# Altium footprint library MOLEX-43650.PcbLib: 12 footprints
Each footprint in its own frame and in the unit in brackets; x right, y up, seen from the top. Pads: shape width x height; smd on the part's side, far side on the other; paste and mask are expansions set on the pad; w line width, h text height; cw(c..) or ccw(c..) is an arc to the next point about the centre after c.
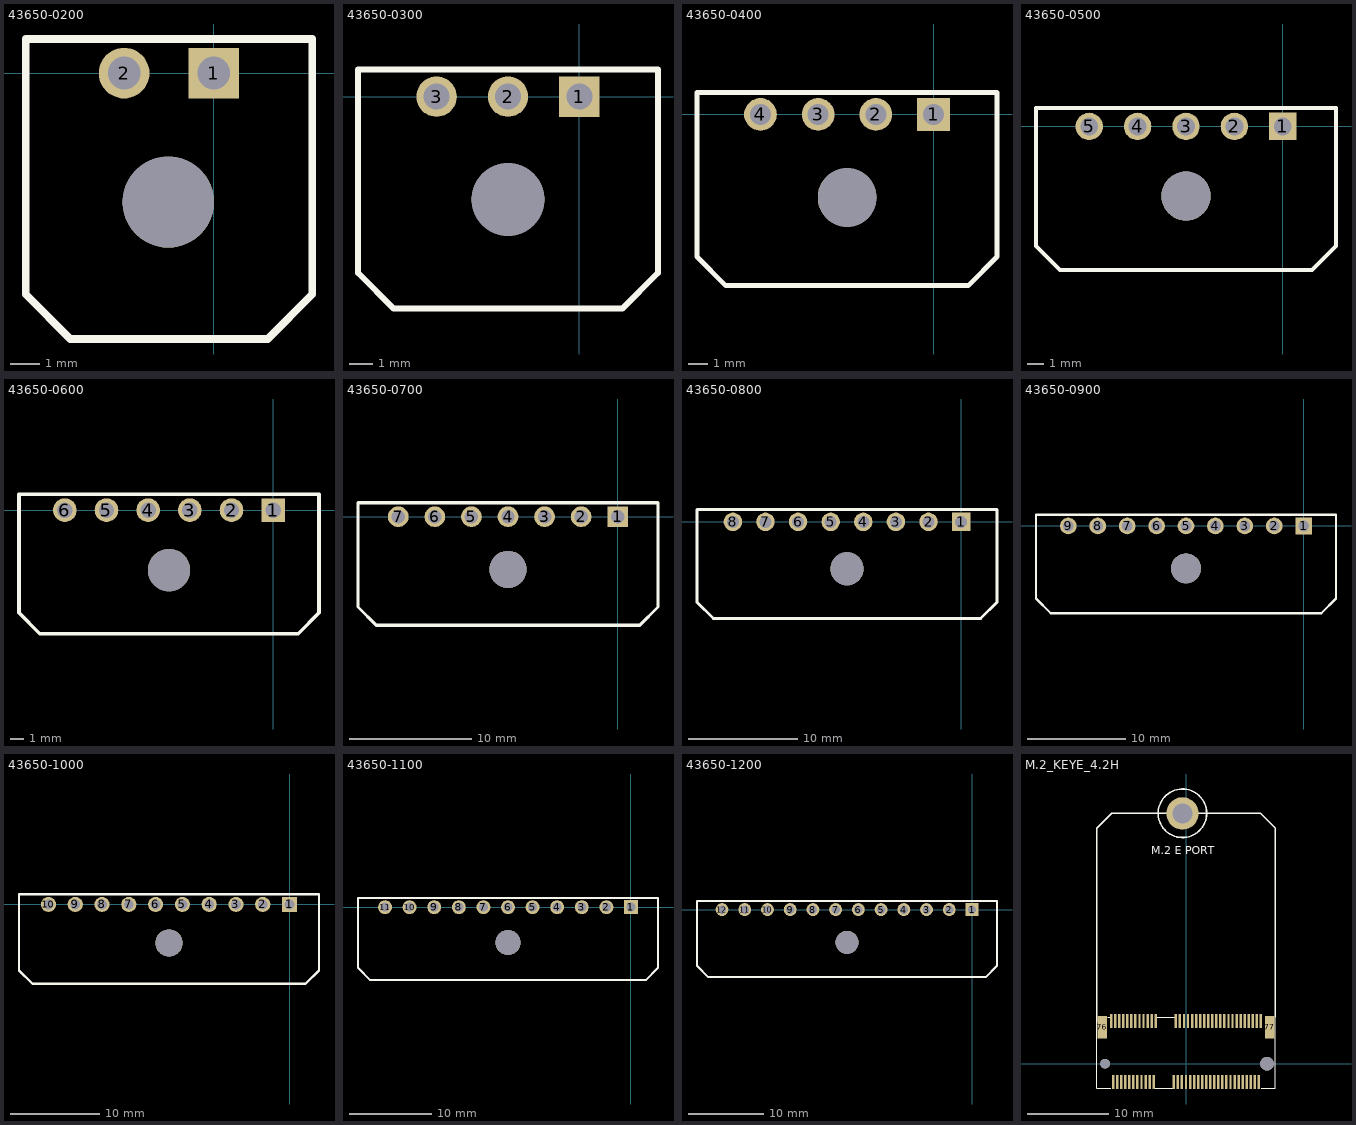
[diagram p0: the footprints below, top view; thin cyan lines are the x and y axes]

## 43650-0200 [mm]
pads (3):
  rect 1.7x1.7 hole 1.1: 1(0,0)
  round 1.7 hole 1.1: 2(-3,0)
  round 3.05 hole 3.05: ""(-1.524,-4.318)
Top Overlay:
  lines w0.254: -6.3,-7.4 -4.8,-8.9 1.8,-8.9 3.3,-7.4 3.3,1.143 -6.3,1.143 -6.3,-7.4

## 43650-0300 [mm]
pads (4):
  rect 1.7x1.7 hole 1.1: 1(0,0)
  round 1.7 hole 1.1: 2(-3,0) 3(-6,0)
  round 3.05 hole 3.05: ""(-3,-4.318)
Top Overlay:
  lines w0.254: -9.3,-7.4 -7.8,-8.9 1.8,-8.9 3.3,-7.4 3.3,1.143 -9.3,1.143 -9.3,-7.4

## 43650-0400 [mm]
pads (5):
  rect 1.7x1.7 hole 1.1: 1(0,0)
  round 1.7 hole 1.1: 2(-3,0) 3(-6,0) 4(-9,0)
  round 3.05 hole 3.05: ""(-4.496,-4.318)
Top Overlay:
  lines w0.254: -12.3,-7.4 -10.8,-8.9 1.8,-8.9 3.3,-7.4 3.3,1.143 -12.3,1.143 -12.3,-7.4

## 43650-0500 [mm]
pads (6):
  rect 1.7x1.7 hole 1.1: 1(0,0)
  round 1.7 hole 1.1: 2(-3,0) 3(-6,0) 4(-9,0) 5(-12,0)
  round 3.05 hole 3.05: ""(-6,-4.318)
Top Overlay:
  lines w0.254: -15.3,-7.4 -13.8,-8.9 1.8,-8.9 3.3,-7.4 3.3,1.143 -15.3,1.143 -15.3,-7.4

## 43650-0600 [mm]
pads (7):
  rect 1.7x1.7 hole 1.1: 1(0,0)
  round 1.7 hole 1.1: 2(-3,0) 3(-6,0) 4(-9,0) 5(-12,0) 6(-15,0)
  round 3.05 hole 3.05: ""(-7.496,-4.318)
Top Overlay:
  lines w0.254: -18.3,-7.4 -18.3,1.143 3.3,1.143 3.3,-7.4 1.8,-8.9 -16.8,-8.9 -18.3,-7.4

## 43650-0700 [mm]
pads (8):
  rect 1.7x1.7 hole 1.1: 1(0,0)
  round 1.7 hole 1.1: 2(-3,0) 3(-6,0) 4(-9,0) 5(-12,0) 6(-15,0) 7(-18,0)
  round 3.05 hole 3.05: ""(-9,-4.318)
Top Overlay:
  lines w0.254: -21.3,-7.4 -19.8,-8.9 1.8,-8.9 3.3,-7.4 3.3,1.143 -21.3,1.143 -21.3,-7.4

## 43650-0800 [mm]
pads (9):
  rect 1.7x1.7 hole 1.1: 1(0,0)
  round 1.7 hole 1.1: 2(-3,0) 3(-6,0) 4(-9,0) 5(-12,0) 6(-15,0) 7(-18,0) 8(-21,0)
  round 3.05 hole 3.05: ""(-10.496,-4.318)
Top Overlay:
  lines w0.254: -24.3,-7.4 -24.3,1.143 3.3,1.143 3.3,-7.4 1.8,-8.9 -22.8,-8.9 -24.3,-7.4

## 43650-0900 [mm]
pads (10):
  rect 1.7x1.7 hole 1.1: 1(0,0)
  round 1.7 hole 1.1: 2(-3,0) 3(-6,0) 4(-9,0) 5(-12,0) 6(-15,0) 7(-18,0) 8(-21,0) 9(-24,0)
  round 3.05 hole 3.05: ""(-12,-4.318)
Top Overlay:
  lines w0.254: -27.3,-7.4 -25.8,-8.9 1.8,-8.9 3.3,-7.4 3.3,1.143 -27.3,1.143 -27.3,-7.4

## 43650-1000 [mm]
pads (11):
  rect 1.7x1.7 hole 1.1: 1(0,0)
  round 1.7 hole 1.1: 2(-3,0) 3(-6,0) 4(-9,0) 5(-12,0) 6(-15,0) 7(-18,0) 8(-21,0) 9(-24,0) 10(-27,0)
  round 3.05 hole 3.05: ""(-13.496,-4.318)
Top Overlay:
  lines w0.254: -30.3,-7.4 -28.8,-8.9 1.8,-8.9 3.3,-7.4 3.3,1.143 -30.3,1.143 -30.3,-7.4

## 43650-1100 [mm]
pads (12):
  rect 1.7x1.7 hole 1.1: 1(0,0)
  round 1.7 hole 1.1: 2(-3,0) 3(-6,0) 4(-9,0) 5(-12,0) 6(-15,0) 7(-18,0) 8(-21,0) 9(-24,0) 10(-27,0) 11(-30,0)
  round 3.05 hole 3.05: ""(-15,-4.318)
Top Overlay:
  lines w0.254: -33.3,-7.4 -33.3,1.143 3.3,1.143 3.3,-7.4 1.8,-8.9 -31.8,-8.9 -33.3,-7.4

## 43650-1200 [mm]
pads (13):
  rect 1.7x1.7 hole 1.1: 1(0,0)
  round 1.7 hole 1.1: 2(-3,0) 3(-6,0) 4(-9,0) 5(-12,0) 6(-15,0) 7(-18,0) 8(-21,0) 9(-24,0) 10(-27,0) 11(-30,0) 12(-33,0)
  round 3.05 hole 3.05: ""(-16.496,-4.318)
Top Overlay:
  lines w0.254: -36.3,-7.4 -34.8,-8.9 1.8,-8.9 3.3,-7.4 3.3,1.143 -36.3,1.143 -36.3,-7.4

## M.2_KEYE_4.2H [mm] "M.2_KEYE_4.2H"
pads (72):
  rect 0.3x1.7 smd: 1(-9.25,5.275) 2(-9,-2.275) 3(-8.75,5.275) 4(-8.5,-2.275) 5(-8.25,5.275) 6(-8,-2.275) 7(-7.75,5.275) 8(-7.5,-2.275) 9(-7.25,5.275) 10(-7,-2.275) 11(-6.75,5.275) 12(-6.5,-2.275) 13(-6.25,5.275) 14(-6,-2.275) 15(-5.75,5.275) 16(-5.5,-2.275) 17(-5.25,5.275) 18(-5,-2.275) 19(-4.75,5.275) 20(-4.5,-2.275) 21(-4.25,5.275) 22(-4,-2.275) 23(-3.75,5.275) 32(-1.5,-2.275) 33(-1.25,5.275) 34(-1,-2.275) 35(-0.75,5.275) 36(-0.5,-2.275) 37(-0.25,5.275) 38(0,-2.275) 39(0.25,5.275) 40(0.5,-2.275) 41(0.75,5.275) 42(1,-2.275) 43(1.25,5.275) 44(1.5,-2.275) 45(1.75,5.275) 46(2,-2.275) 47(2.25,5.275) 48(2.5,-2.275) 49(2.75,5.275) 50(3,-2.275) 51(3.25,5.275) 52(3.5,-2.275) 53(3.75,5.275) 54(4,-2.275) 55(4.25,5.275) 56(4.5,-2.275) 57(4.75,5.275) 58(5,-2.275) 59(5.25,5.275) 60(5.5,-2.275) 61(5.75,5.275) 62(6,-2.275) 63(6.25,5.275) 64(6.5,-2.275) 65(6.75,5.275) 66(7,-2.275) 67(7.25,5.275) 68(7.5,-2.275) 69(7.75,5.275) 70(8,-2.275) 71(8.25,5.275) 72(8.5,-2.275) 73(8.75,5.275) 74(9,-2.275) 75(9.25,5.275)
  rect 1.2x2.75 smd: 76(-10.35,4.5) 77(10.35,4.5)
  round 1.2 hole 1.2: ""(-10,0)
  round 4 hole 2.5: ""(-0.445,30.937)
  round 1.7 hole 1.7: ""(10,0)
Top Overlay:
  circle w0.203: c-0.445,30.95 r3
  lines w0.152: -11.049,5.715 -11.049,-3.048 -9.271,-3.048 ; -9.652,5.715 -9.398,5.715 ; -3.81,-3.048 -1.651,-3.048 ; -3.556,5.715 -1.397,5.715 ; 9.271,-3.048 11.049,-3.048 11.049,5.715 ; 11.049,-2.921 11.049,5.461
  lines w0.203: -11.011,5.131 -11.011,29.108 -9.169,30.95 8.28,30.95 ; 8.268,30.95 9.207,30.95 11.049,29.108 11.049,28.892 ; 11.049,5.728 11.049,28.931
  text "M.2 E PORT" at -4.267,25.857 h1